# Altium schematic symbol library loom-umbilical-box.SchLib: 3 symbols
Pins are listed as number, name and electrical type; pins without a type are passive.

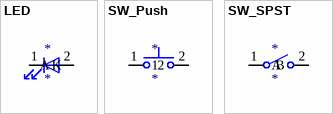
[diagram p0: symbols LED to SW_SPST]

## LED
designator *
pins: 1 K, 2 A

## SW_Push
designator *
pins: 1, 2

## SW_SPST
designator *
pins: 1 A, 2 B